# Altium footprint library RGB_LED.PcbLib: 1 footprints
Each footprint in its own frame and in the unit in brackets; x right, y up, seen from the top. Pads: shape width x height; smd on the part's side, far side on the other; paste and mask are expansions set on the pad; w line width, h text height; cw(c..) or ccw(c..) is an arc to the next point about the centre after c.
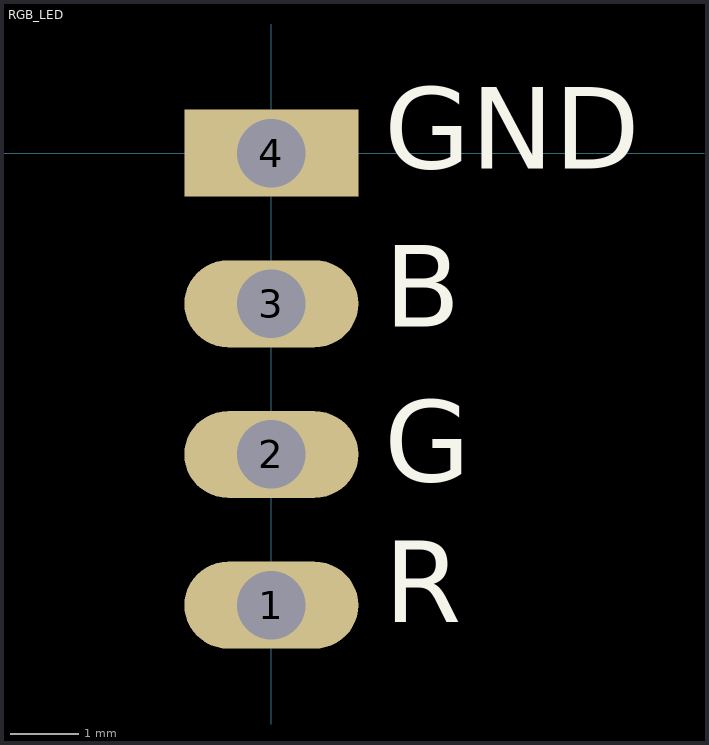
[diagram p0: the footprint, top view; thin cyan lines are the x and y axes]

## RGB_LED [mm]
pads (4):
  oval 2.54x1.27 hole 1: 1(0,-6.6) 2(0,-4.4) 3(0,-2.2)
  rect 2.54x1.27 hole 1: 4(0,0)
Top Overlay:
  text "R" at 1.651,-7.239 h2.03
  text "G" at 1.651,-5.185 h2.03
  text "B" at 1.651,-2.921 h2.03
  text "GND" at 1.651,-0.613 h2.03